# Altium schematic symbol library DBF.SchLib: 23 symbols
Pins are listed as number, name and electrical type; pins without a type are passive.

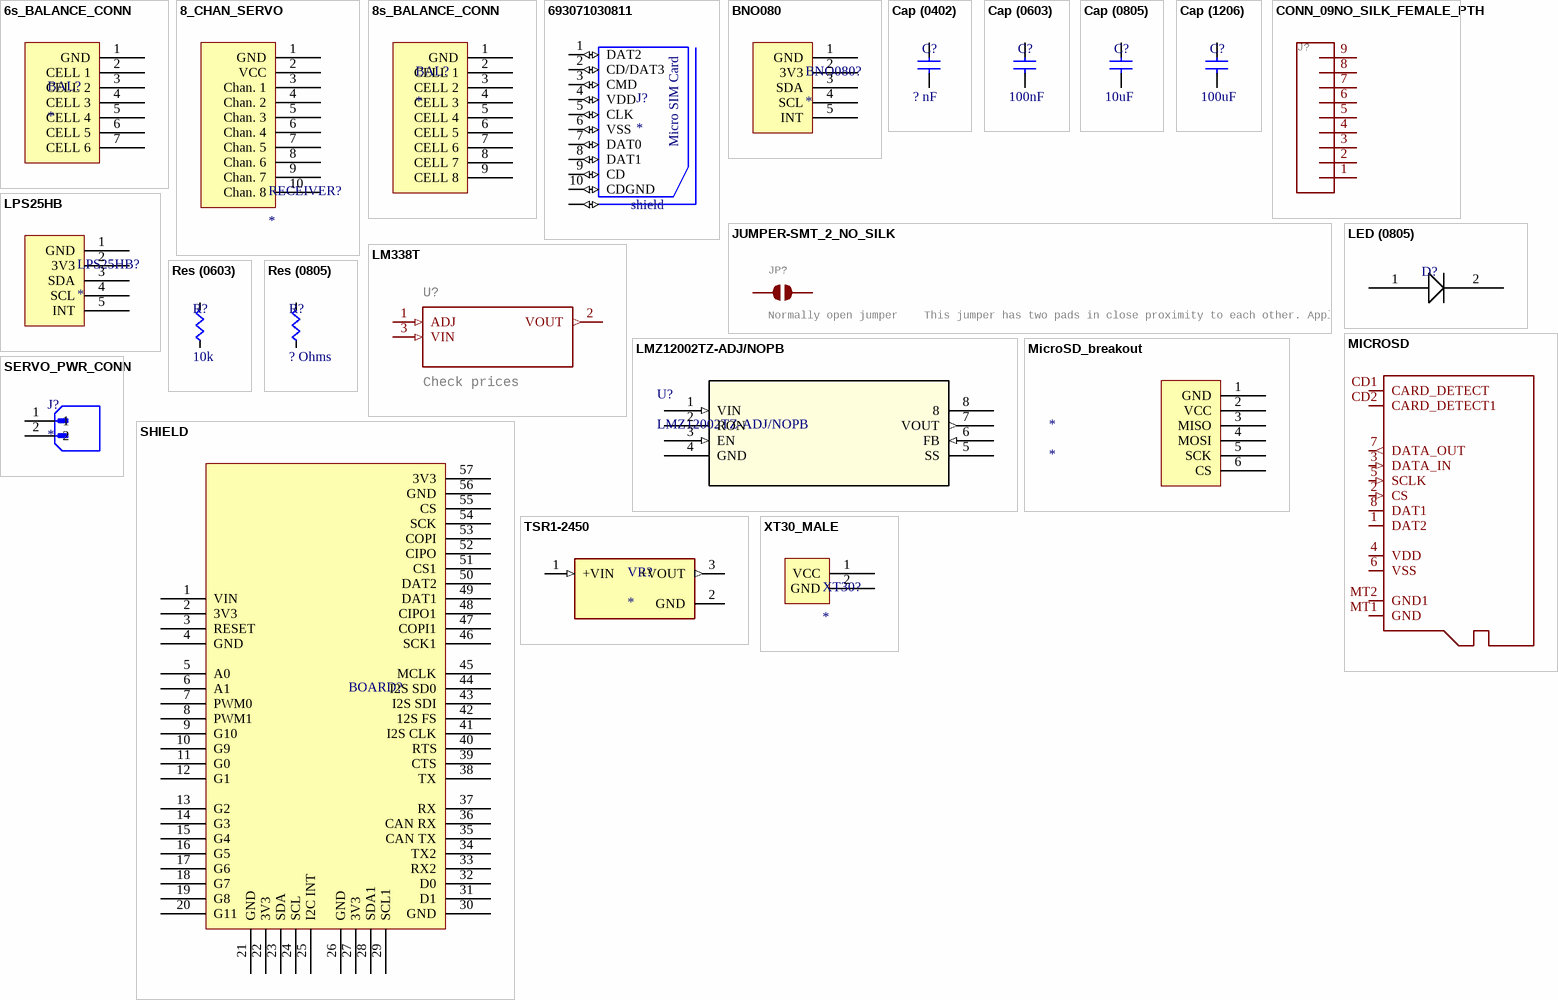
[diagram p0: symbols 6s_BALANCE_CONN to XT30_MALE]

## 6s_BALANCE_CONN
designator BAL?
footprint B7B-XH-A (6s balance lead connector)
pins: 1 GND, 2 CELL 1, 3 CELL 2, 4 CELL 3, 5 CELL 4, 6 CELL 5, 7 CELL 6

## 8_CHAN_SERVO
designator RECEIVER?
footprint 8_CHAN_SERVO
pins: 1 GND, 2 VCC, 3 Chan. 1, 4 Chan. 2, 5 Chan. 3, 6 Chan. 4, 7 Chan. 5, 8 Chan. 6, 9 Chan. 7, 10 Chan. 8

## 8s_BALANCE_CONN
designator BAL?
footprint B9B-XH-A
pins: 1 GND, 2 CELL 1, 3 CELL 2, 4 CELL 3, 5 CELL 4, 6 CELL 5, 7 CELL 6, 8 CELL 7, 9 CELL 8

## 693071030811
designator J?
9 (8 + 1) Position Card Connector Secure Digital - microSDâ„¢ Surface Mount, Right Angle Gold; MF: Wurth Elektronik; MP: 693071030811; Value: *; Price: None; Package: None; Check_prices: https://www.snapeda.com/parts/693071030811/Wurth+Elektronik/view-part/?ref=eda; Availability: In Stock; SnapEDA_Link: https://www.snapeda.com/parts/693071030811/Wurth+Elektronik/view-part/?ref=snap; Purchase-URL: https://pricing.snapeda.com/search/part/693071030811/?ref=eda
footprint 693071030811_microSD
pins: 1 DAT2 (io), 2 CD/DAT3 (io), 3 CMD (io), 4 VDD (io), 5 CLK (io), 6 VSS (io), 7 DAT0 (io), 8 DAT1 (io), 9 CD (io), 10 CDGND (io), 11-1 SHIELD (io), 11-3 SHIELD (io), 11-4 SHIELD (io), 11-5 SHIELD (io), 11-6 SHIELD (io), 11-7 SHIELD (io), 11-8 SHIELD (io), 11-9 SHIELD (io), 11-10 SHIELD (io)
text: Micro SIM Card; shield

## BNO080
designator BNO080?
BNO080 Breakout Board
footprint BNO080
pins: 1 GND, 2 3V3, 3 SDA, 4 SCL, 5 INT

## Cap (0402)
designator C?  value ? nF  (hidden comment: *)
Supplier 1: RSComponents; Supplier 2: Digi-Key; Supplier Part Number 1: 8145808P; Supplier Part Number 2: 490-10702-1-ND
footprint CAPC0805 (Chip Capacitor, 2-Leads, Body 2.01x1.25mm, IPC Medium Density)
footprint CAPC 0402
footprint CAP2225 (Chip Capacitor, 2-Leads, Body 5.60x6.40mm, IPC Medium Density)
footprint CAP1808 (Chip Capacitor, 2-Leads, Body 4.50x2.00mm, IPC Medium Density)
footprint CAP1210
pins: 1 A, 2 B

## Cap (0603)
designator C?  value 100nF  (hidden comment: *)
Supplier 1: Digi-Key; Supplier Part Number 1: 1276-1000-1-ND
footprint CAPC 0603 (Chip Capacitor, 2-Leads, Body 1.60x0.80mm, IPC Medium Density)
footprint CAPC1206 (Chip Capacitor, 2-Leads, Body 3.20x1.60mm, IPC Medium Density)
footprint CAPC0805 (Chip Capacitor, 2-Leads, Body 2.01x1.25mm, IPC Medium Density)
footprint CAPC0402 (Chip Capacitor, 2-Leads, Body 1.00x0.50mm, IPC Medium Density)
footprint CAP2225 (Chip Capacitor, 2-Leads, Body 5.60x6.40mm, IPC Medium Density)
footprint CAP1808 (Chip Capacitor, 2-Leads, Body 4.50x2.00mm, IPC Medium Density)
footprint CAP1210
pins: 1 A, 2 B

## Cap (0805)
designator C?  value 10uF  (hidden comment: *)
Supplier 1: Digi-Key; Supplier Part Number 1: 490-10748-1-ND
footprint CAPC 0805
footprint CAPC1206 (Chip Capacitor, 2-Leads, Body 3.20x1.60mm, IPC Medium Density)
footprint CAPC0805 (Chip Capacitor, 2-Leads, Body 2.01x1.25mm, IPC Medium Density)
footprint CAPC0402 (Chip Capacitor, 2-Leads, Body 1.00x0.50mm, IPC Medium Density)
footprint CAP2225 (Chip Capacitor, 2-Leads, Body 5.60x6.40mm, IPC Medium Density)
footprint CAP1808 (Chip Capacitor, 2-Leads, Body 4.50x2.00mm, IPC Medium Density)
footprint CAP1210
pins: 1 A, 2 B

## Cap (1206)
designator C?  value 100uF  (hidden comment: *)
Supplier 1: Digi-Key; Supplier Part Number 1: 445-6007-1-ND
footprint CAPC 1206
footprint CAPC1206 (Chip Capacitor, 2-Leads, Body 3.20x1.60mm, IPC Medium Density)
footprint CAPC0805 (Chip Capacitor, 2-Leads, Body 2.01x1.25mm, IPC Medium Density)
footprint CAPC0402 (Chip Capacitor, 2-Leads, Body 1.00x0.50mm, IPC Medium Density)
footprint CAP2225 (Chip Capacitor, 2-Leads, Body 5.60x6.40mm, IPC Medium Density)
footprint CAP1808 (Chip Capacitor, 2-Leads, Body 4.50x2.00mm, IPC Medium Density)
footprint CAP1210
pins: 1 A, 2 B

## CONN_09NO_SILK_FEMALE_PTH
designator J?, comment Multi connection point. Often used as Generic Header-pin footprint for 0.1 inch spaced/style header connections    On any of the 0.1 inch spaced packages, you can populate with these:  Break Away Headers - Straight (PRT-00116)   Break Away Male Headers - Right Angle (PRT-00553)   Female Headers (PRT-00115)   Break Away Headers - Machine Pin (PRT-00117)   Break Away Female Headers - Swiss Machine Pin (PRT-00743)   Arduino Stackable Header - 8 Pin (PRT-09279)        For SCREWTERMINALS and SPRING TERMINALS visit here:  Screw Terimnals on SparkFun.com (5mm/3.5mm/2.54mm spacing)       This device is also useful as a general connection point to wire up your design to another part of your project. Our various solder wires solder well into these plated through hole pads.  Hook-Up Wire - Assortment (Stranded, 22 AWG) (PRT-11375)   Hook-Up Wire - Assortment (Solid Core, 22 AWG) (PRT-11367)   View the entire wire category on our website here          Special notes:     Molex polarized connector foot print use with SKU : PRT-08231 with associated crimp pins and housings. 1MM SMD Version SKU: PRT-10208    NOTES ON THE VARIANTS LOCK and LOCK_LONGPADS... This footprint was designed to help hold the alignment of a through-hole component (i.e.  6-pin header) while soldering it into place. You may notice that each hole has been shifted either up or down by 0.005 of an inch from it's more standard position (which is a perfectly straight line).  This slight alteration caused the pins (the squares in the middle) to touch the edges of the holes.  Because they are alternating, it causes a "brace" to hold the component in place.  0.005 has proven to be the perfect amount of "off-center" position when using our standard breakaway headers. Although looks a little odd when you look at the bare footprint, once you have a header in there, the alteration is very hard to notice.  Also,if you push a header all the way into place, it is covered up entirely on the bottom side.  (value not drawn)
GateName_1: G$1; SymbolName_1: CONN_08; DeviceName: NO_SILK_FEMALE_PTH; PROD_ID: CONN-08438; LibraryName: SparkFun-Connectors; DeviceSetName: CONN_08; Package: 1X08_NO_SILK
footprint 1X09_NO_SILK
pins: 1, 2, 3, 4, 5, 6, 7, 8, 9

## JUMPER-SMT_2_NO_SILK
designator JP?, comment Normally open jumper    This jumper has two pads in close proximity to each other. Apply solder to close the connection.   Round pads are easier to solder for beginners, but are a lot larger.   SparkFun Product that uses the round pads:  SparkFun EL Sequencer
GateName_1: G$1; SymbolName_1: SMT-JUMPER_2_NO; DeviceName: _SILK; DeviceSetName: JUMPER-SMT_2_NO; LibraryName: SparkFun-Jumpers; Package: SMT-JUMPER_2_NO_SILK
footprint SMT-JUMPER_2_NO_SILK
pins: 1, 2

## LED (0805)
designator D?  (value not drawn)
footprint LED 0805
pins: 1 +, 2 -

## LM338T
designator U?, comment Check prices
GateName_1: G$1; SymbolName_1: LM338T; MP: LM338T/NOPB; MF: Texas Instruments; LibraryName: LM338T; DeviceSetName: LM338T; Package: TO254P1054X470X1955-3; Price: None; Purchase-URL: https://pricing.snapeda.com/search/part/LM338T/NOPB/?ref=eda; Package: TO-220-3 Texas Instruments; Availability: Warning
footprint TO254P1054X470X1955-3
pins: 1 ADJ (in), 2 VOUT (out), 3 VIN (in)

## LMZ12002TZ-ADJ/NOPB
designator U?
2A SIMPLE SWITCHER® Power Module with 20V Maximum Input Voltage; Manufacturer: Texas Instruments; NSC_PackageReference: TZA07A; DatasheetURL: http://www.ti.com/lit/ds/symlink/lmz12002.pdf; basePN: LMZ12002; Manufacturer_Part_Number: LMZ12002TZ-ADJ/NOPB; Vendor: Texas Instruments; Copyright: Copyright (C) 2018 Accelerated Designs. All rights reserved; RefDes: RefDes; Type: DEV
footprint TZA07A
footprint LMZ12002
pins: 1 VIN (in), 2 RON, 3 EN (in), 4 GND (power), 5 SS, 6 FB (in), 7 VOUT (out), 8

## LPS25HB
designator LPS25HB?
LPS25HB Breakout Board
footprint LPS25HB
pins: 1 GND, 2 3V3, 3 SDA, 4 SCL, 5 INT

## MICROSD
designator uSD?, comment Micro-SD / Transflash card holder with SPI pinout   For the 3M # 2908-05WB-MG and/or 4UCON #19656 push-push type  (value not drawn)
GateName_1: G$1; DeviceSetName: MICROSD; SymbolName_1: TRANSFLASH; LibraryName: adafruit; Package: MICROSD
footprint MICROSD
pins: 1 DAT2 (io), 2 CS (in), 3 DATA_IN (in), 4 VDD (power), 5 SCLK (in), 6 VSS (power), 7 DATA_OUT (out), 8 DAT1 (io), CD1 CARD_DETECT, CD2 CARD_DETECT1, MT1 GND (power), MT2 GND1 (power)

## MicroSD_breakout
designator *
footprint 1x6 (0.254mm pitch)
pins: 1 GND, 2 VCC, 3 MISO, 4 MOSI, 5 SCK, 6 CS

## Res (0603)
designator R?  value 10k  (hidden comment: *)
Supplier 1: Digi-Key; Supplier Part Number 1: RMCF0603JT10K0CT-ND
footprint RES 0603 (Chip Resistor, 2-Leads, Body 1.60x0.80mm, IPC Medium Density)
footprint FMP300 (Power resistor)
footprint FMP200 (Power resistor Yageo 2W)
footprint RES0402 (Chip Resistor, 2-Leads, Body 1.00x0.50mm, changed from previous)
footprint RES2512 (Chip Resistor, 2-Leads, Body 6.35x3.20mm, IPC Medium Density)
footprint RES1206 (Chip Resistor, 2-Leads, Body 3.20x1.60mm, IPC Medium Density)
footprint RES0805 (Chip Resistor, 2-Leads, Body 2.01x1.25mm, IPC Medium Density)
footprint WSBM8518L1000JT-MOLEX_2 (2 shunt resistor pins of MOLEX type WSBM8518L1000JT)
pins: 1 A, 2 B

## Res (0805)
designator R?  value ? Ohms  (hidden comment: *)
Supplier 1: Digi-Key; Supplier 2: Digi-Key; Supplier 3: Digi-Key; Supplier 4: Digi-Key; Supplier 5: Digi-Key; Supplier Part Number 1: P6.98KCCT-ND; Supplier Part Number 2: P1.07KCCT-ND; Supplier Part Number 3: P5.62KCCT-ND; Supplier Part Number 4: P34.0KCCT-ND; Supplier Part Number 5: P78.7KCCT-ND
footprint RES 0805
footprint FMP300 (Power resistor)
footprint FMP200 (Power resistor Yageo 2W)
footprint RES0402 (Chip Resistor, 2-Leads, Body 1.00x0.50mm, changed from previous)
footprint RES2512 (Chip Resistor, 2-Leads, Body 6.35x3.20mm, IPC Medium Density)
footprint RES1206 (Chip Resistor, 2-Leads, Body 3.20x1.60mm, IPC Medium Density)
footprint RES0805 (Chip Resistor, 2-Leads, Body 2.01x1.25mm, IPC Medium Density)
footprint WSBM8518L1000JT-MOLEX_2 (2 shunt resistor pins of MOLEX type WSBM8518L1000JT)
pins: 1 A, 2 B

## SERVO_PWR_CONN
designator J?
Connector Header Through Hole 2 position 0.098 (2.50mm); MF: Molex; MP: 1053091102; Package: None; Check_prices: https://www.snapeda.com/parts/1053091102/Molex/view-part/2711154/?ref=eda; Value: *; Price: None; Availability: Not in stock; SnapEDA_Link: https://www.snapeda.com/parts/1053091102/Molex/view-part/2711154/?ref=snap
footprint MOLEX_1053091102
footprint 1053091102 (Manufac. No. 1053091102)
pins: 1, 2

## SHIELD
designator BOARD?  (value not drawn)
footprint Shield (This part is the layout of all the through holes needed to fit the ATP carrier board)
pins: 1 VIN, 2 3V3, 3 RESET, 4 GND, 5 A0, 6 A1, 7 PWM0, 8 PWM1, 9 G10, 10 G9, 11 G0, 12 G1, 13 G2, 14 G3, 15 G4, 16 G5, 17 G6, 18 G7, 19 G8, 20 G11, 21 GND, 22 3V3, 23 SDA, 24 SCL, 25 I2C INT, 26 GND, 27 3V3, 28 SDA1, 29 SCL1, 30 GND, 31 D1, 32 D0, 33 RX2, 34 TX2, 35 CAN TX, 36 CAN RX, 37 RX, 38 TX, 39 CTS, 40 RTS, 41 I2S CLK, 42 12S FS, 43 I2S SDI, 44 I2S SD0, 45 MCLK, 46 SCK1, 47 COPI1, 48 CIPO1, 49 DAT1, 50 DAT2, 51 CS1, 52 CIPO, 53 COPI, 54 SCK, 55 CS, 56 GND, 57 3V3

## TSR1-2450
designator VR?
Non-Isolated PoL Module DC DC Converter 1 Output 5V 1A 7V - 36V Input; MF: Traco Power; MP: TSR 1-2450; Price: None; Package: SIP-3 Tracopower; Check_prices: https://www.snapeda.com/parts/TSR%201-2450/Traco%20Power/view-part/5846336/?ref=eda; Availability: Warning; Value: *; Purchase-URL: https://pricing.snapeda.com/search/part/TSR 1-2450/?ref=eda; SnapEDA_Link: https://www.snapeda.com/parts/TSR%201-2450/Traco%20Power/view-part/5846336/?ref=snap
footprint CONV_TSR1-2450
pins: 1 +VIN (in), 2 GND (power), 3 +VOUT (out)

## XT30_MALE
designator XT30?
footprint XT30_MALE
pins: 1 VCC, 2 GND